# EAGLE library part AD8304 (library opamps)
AD8304: Logarithmic converter (Analog Devices) +5V, 160dB range (100pA-10mA) 20mV offset, 10MHz UGF, 1µV/rt(Hz) noise
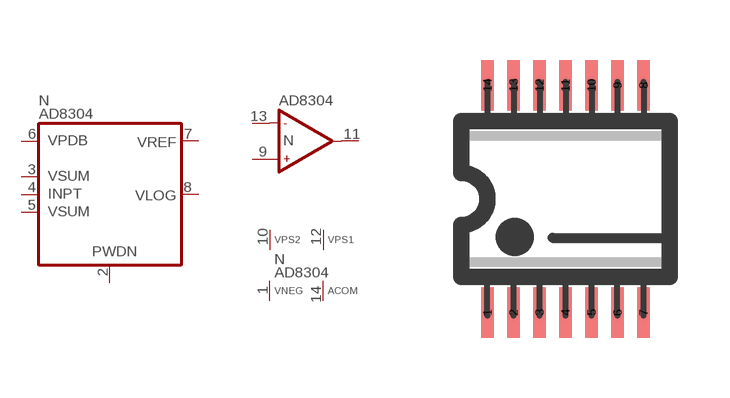
[diagram p232: symbol with the pads of TSSOP14; footprint TSSOP14]

Designator prefix N; gates A=AD8304 P=VAD8304 B=OP-PART

## AD8304  [TSSOP14]
1  P:VNEG  pwr
2  A:PWDN  in
3  A:VSUM
4  A:INPT  in
5  A:VSUM
6  A:VPDB  out
7  A:VREF  out
8  A:VLOG  out
9  B:IN+  in
10  P:VPS2  pwr
11  B:OUT  out
12  P:VPS1  pwr
13  B:IN-  in
14  P:ACOM  pwr

## AD8304S  [TSSOP14]
Pads as for TSSOP14

## Footprint TSSOP14 (pad centres in mm)
TSSOP14, SMD TSSOP IC package, 14 pins
smd 0.305 x 1.27: 1 -1.95,-2.844; 2 -1.3,-2.844; 3 -0.65,-2.844; 4 0,-2.844; 5 0.65,-2.844; 6 1.3,-2.844; 7 1.95,-2.844; 8 1.95,2.844; 9 1.3,2.844; 10 0.65,2.844; 11 0,2.844; 12 -0.65,2.844; 13 -1.3,2.844; 14 -1.95,2.844